# Altium integrated library dealon.IntLib: 1 symbol
Pins are listed as number, name and electrical type; pins without a type are passive.

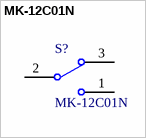
[diagram p0: symbol MK-12C01N]

## MK-12C01N
designator S?
SPDT Surface Mount Switch
footprint MK-12C01N
pins: 1, 2, 3